# Altium footprint library Микрофоны.PcbLib: 1 footprints
Each footprint in its own frame and in the unit in brackets; x right, y up, seen from the top. Pads: shape width x height; smd on the part's side, far side on the other; paste and mask are expansions set on the pad; w line width, h text height; cw(c..) or ccw(c..) is an arc to the next point about the centre after c.
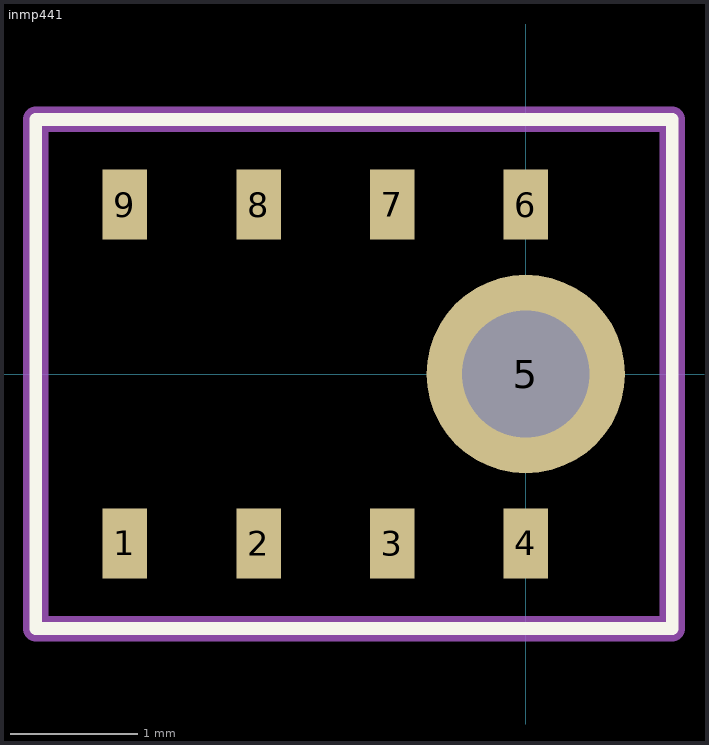
[diagram p0: the footprint, top view; thin cyan lines are the x and y axes]

## inmp441 [mm]
pads (9):
  rect 0.35x0.55 smd: 1(-3.15,-1.33) 2(-2.1,-1.33) 3(-1.05,-1.33) 4(0,-1.33) 6(0,1.33) 7(-1.05,1.33) 8(-2.1,1.33) 9(-3.15,1.33)
  round 1.56 hole 1: 5(0,0)
Top Overlay:
  lines w0.1: -3.85,-2 1.15,-2 1.15,2 -3.85,2 -3.85,-2
Top Assy:
  lines w0.2: -3.85,-2 -3.85,2 1.15,2 1.15,-2 -3.85,-2
  text ".Designator" at -3.7,-0.3 h1.52
3D body "inmp441_b.stp": height 1.05, standoff 0, extent -3.745,-1.905 1.075,1.955